# Altium footprint library gestion de potencia.PcbLib: 6 footprints
Each footprint in its own frame and in the unit in brackets; x right, y up, seen from the top. Pads: shape width x height; smd on the part's side, far side on the other; paste and mask are expansions set on the pad; w line width, h text height; cw(c..) or ccw(c..) is an arc to the next point about the centre after c.
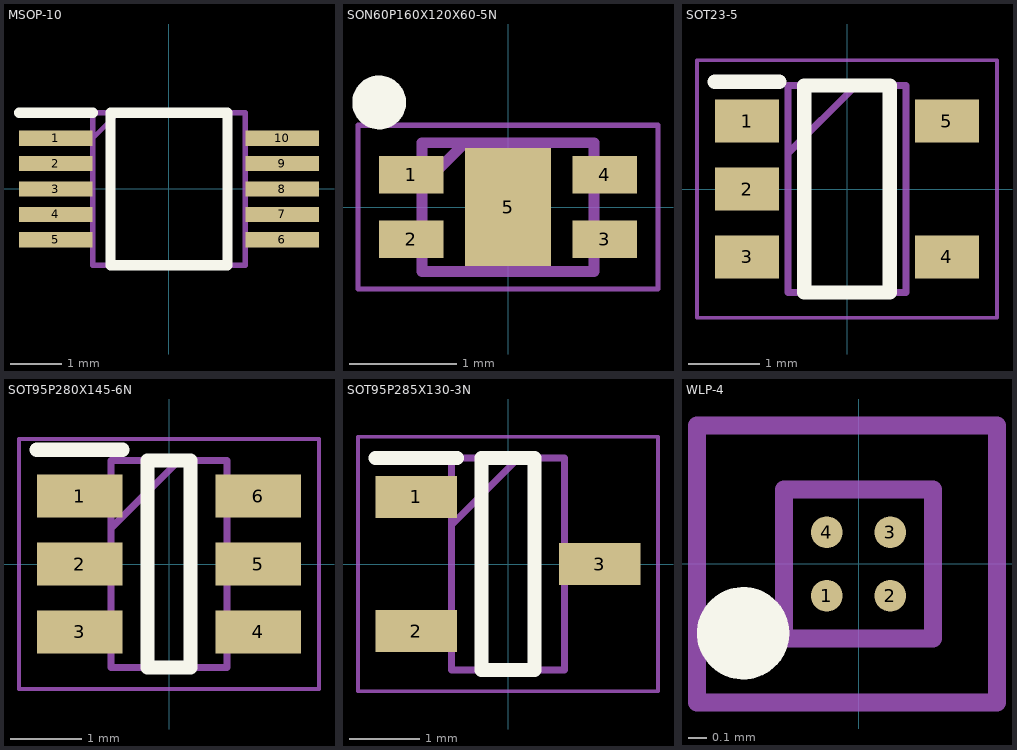
[diagram p0: the footprints below, top view; thin cyan lines are the x and y axes]

## MSOP-10 [mm]
pads (10):
  rect 1.45x0.3 smd: 1(-2.224,0.991) 2(-2.224,0.491) 3(-2.224,-0.009) 4(-2.224,-0.509) 5(-2.224,-1.009) 6(2.226,-1.009) 7(2.226,-0.509) 8(2.226,-0.009) 9(2.226,0.491) 10(2.226,0.991)
Top Overlay:
  lines w0.2: -2.949,1.491 -1.499,1.491 ; -1.149,-1.509 1.151,-1.509 1.151,1.491 -1.149,1.491 -1.149,-1.509
Mechanical 13:
  lines w0.1: -1.499,0.991 -0.999,1.491 ; -1.499,-1.509 1.501,-1.509 1.501,1.491 -1.499,1.491 -1.499,-1.509
3D body "MSOP-10.STEP": height 1.05, standoff 0, extent -2.514,-1.5 2.514,1.5

## SON60P160X120X60-5N [mm]
pads (5):
  rect 0.6x0.35 smd: 1(-0.9,0.3) 2(-0.9,-0.3) 3(0.9,-0.3) 4(0.9,0.3)
  rect 0.8x1.1 smd: 5(0,0)
Top Overlay:
  circle w0.25: c-1.2,0.975 r0.125
Mechanical 13:
  lines w0.1: -0.8,0.2 -0.4,0.6 ; -0.8,-0.6 -0.8,0.6 0.8,0.6 0.8,-0.6 -0.8,-0.6
Mechanical 15:
  lines w0.05: -1.397,-0.762 -1.397,0.762 1.397,0.762 1.397,-0.762 -1.397,-0.762
3D body "XC8101AA01GR-G.stp": height 0.6, standoff 0, extent -0.85,-0.6 0.85,0.6

## SOT23-5 [mm]
pads (5):
  rect 0.9x0.6 smd: 1(-1.4,0.95) 2(-1.4,0) 3(-1.4,-0.95) 4(1.4,-0.95) 5(1.4,0.95)
Top Overlay:
  lines w0.2: -1.85,1.5 -0.95,1.5 ; -0.6,-1.45 0.6,-1.45 0.6,1.45 -0.6,1.45 -0.6,-1.45
Mechanical 13:
  lines w0.1: -0.825,0.5 0.125,1.45 ; -0.825,-1.45 0.825,-1.45 0.825,1.45 -0.825,1.45 -0.825,-1.45
Mechanical 15:
  lines w0.05: -2.1,-1.8 2.1,-1.8 2.1,1.8 -2.1,1.8 -2.1,-1.8
3D body "SOT23-5.step": height 1.1, standoff 0, extent -1.25,-1.5 1.25,1.5

## SOT95P280X145-6N [mm]
pads (6):
  rect 1.2x0.6 smd: 1(-1.25,0.95) 2(-1.25,0) 3(-1.25,-0.95) 4(1.25,-0.95) 5(1.25,0) 6(1.25,0.95)
Top Overlay:
  lines w0.2: -1.85,1.6 -0.65,1.6 ; -0.3,-1.45 0.3,-1.45 0.3,1.45 -0.3,1.45 -0.3,-1.45
Mechanical 13:
  lines w0.1: -0.812,0.5 0.138,1.45 ; -0.812,-1.45 0.812,-1.45 0.812,1.45 -0.812,1.45 -0.812,-1.45
Mechanical 15:
  lines w0.05: -2.1,-1.75 2.1,-1.75 2.1,1.75 -2.1,1.75 -2.1,-1.75
3D body "SOT23-6.STEP": height 1.09, standoff 0, extent -1.213,-1.397 1.213,1.397

## SOT95P285X130-3N [mm]
pads (3):
  rect 1.15x0.6 smd: 1(-1.3,0.95) 2(-1.3,-0.95) 3(1.3,0)
Top Overlay:
  lines w0.2: -1.875,1.5 -0.725,1.5 ; -0.375,-1.5 0.375,-1.5 0.375,1.5 -0.375,1.5 -0.375,-1.5
Mechanical 13:
  lines w0.1: -0.8,0.55 0.15,1.5 ; -0.8,-1.5 0.8,-1.5 0.8,1.5 -0.8,1.5 -0.8,-1.5
Mechanical 15:
  lines w0.05: -2.125,-1.8 2.125,-1.8 2.125,1.8 -2.125,1.8 -2.125,-1.8
3D body "SOT-346.STEP": height 1.2, standoff 0, extent -1.4,-1.45 1.4,1.45

## WLP-4 [mm]
pads (4):
  round 0.175 smd: 1(-0.175,-0.175) 2(0.175,-0.175) 3(0.175,0.175) 4(-0.175,0.175)
Top Overlay:
  circle w0.254: c-0.635,-0.381 r0.127
Mechanical 13:
  lines w0.1: -0.41,-0.41 -0.41,0.41 0.41,0.41 0.41,-0.41 -0.41,-0.41
Mechanical 15:
  lines w0.1: -0.889,-0.762 -0.889,0.762 0.762,0.762 0.762,-0.762 -0.889,-0.762
3D body "WLP-4.STEP": height 0.26, standoff -0.09, extent -0.381,-0.422 0.464,0.422